# Altium footprint library BCS-108-L-D-HE.PcbLib: 1 footprints
Each footprint in its own frame and in the unit in brackets; x right, y up, seen from the top. Pads: shape width x height; smd on the part's side, far side on the other; paste and mask are expansions set on the pad; w line width, h text height; cw(c..) or ccw(c..) is an arc to the next point about the centre after c.
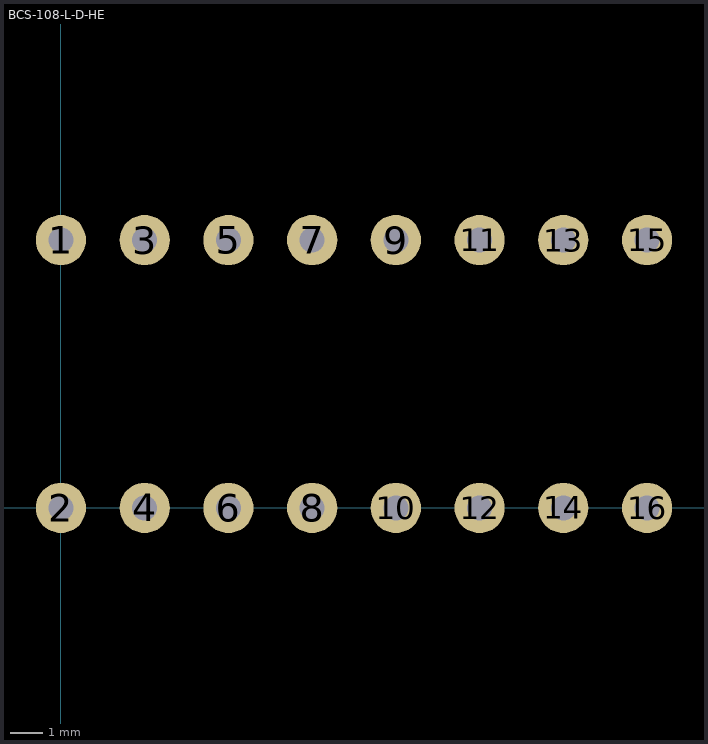
[diagram p0: the footprint, top view; thin cyan lines are the x and y axes]

## BCS-108-L-D-HE [mil] "BCS-108-L-D-HE"
pads (16):
  round 60 hole 30: 1(0,320) 2(0,0) 3(100,320) 4(100,0) 5(200,320) 6(200,0) 7(300,320) 8(300,0) 9(400,320) 10(400,0) 11(500,320) 12(500,0) 13(600,320) 14(600,0) 15(700,320) 16(700,0)
3D body "BCS_108_L_D_HE.STEP": height 210, standoff -140, extent -50,0 750,320